# EAGLE library part 19264G (library 19264G)
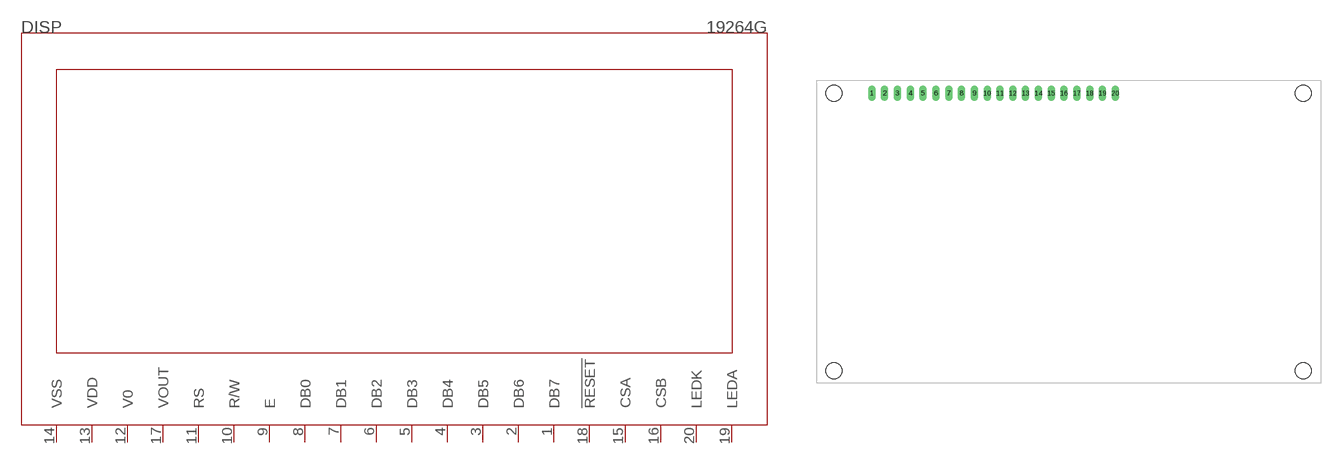
[diagram p0: symbol with the pads of DISP; footprint DISP]

Designator prefix DISP

## 19264G  [DISP]
1  DB7
2  DB6
3  DB5
4  DB4
5  DB3
6  DB2
7  DB1
8  DB0
9  E
10  R/W
11  RS
12  V0
13  VDD
14  VSS
15  CSA
16  CSB
17  VOUT
18  !RESET!
19  LEDA
20  LEDK

## Footprint DISP (pad centres in mm)
drill 1.016 long: 1 11,57.5; 2 13.54,57.5; 3 16.08,57.5; 4 18.62,57.5; 5 21.16,57.5; 6 23.7,57.5; 7 26.24,57.5; 8 28.78,57.5; 9 31.32,57.5; 10 33.86,57.5; 11 36.4,57.5; 12 38.94,57.5; 13 41.48,57.5; 14 44.02,57.5; 15 46.56,57.5; 16 49.1,57.5; 17 51.64,57.5; 18 54.18,57.5; 19 56.72,57.5; 20 59.26,57.5
hole 3.2 at 3.5,57.5
hole 3.2 at 96.5,57.5
hole 3.2 at 3.5,2.5
hole 3.2 at 96.5,2.5